# EAGLE library part AD5247 (library df4iah_dig-pot)
AD5247 DigPot
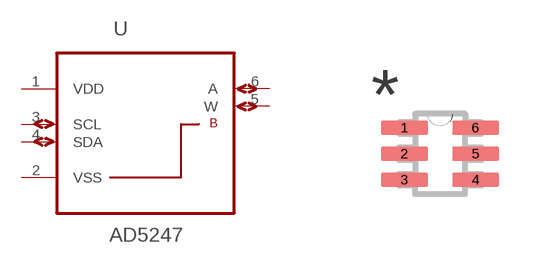
[diagram p1: symbol with the pads of SC70-6; footprint SC70-6]

Designator prefix -

## AD5247  [SC70-6]
1  VDD  pwr
2  VSS  pwr
3  SCL
4  SDA
5  W
6  A

## Footprint SC70-6 (pad centres in mm)
SC70-6
smd 1.175 x 0.35: 1 -0.889,0.65; 2 -0.889,0; 3 -0.889,-0.65; 4 0.889,-0.65; 5 0.889,0; 6 0.889,0.65